# Altium footprint library Miscellaneous Devices.PcbLib: 177 footprints (part 6 of 12)
Each footprint in its own frame and in the unit in brackets; x right, y up, seen from the top. Pads: shape width x height; smd on the part's side, far side on the other; paste and mask are expansions set on the pad; w line width, h text height; cw(c..) or ccw(c..) is an arc to the next point about the centre after c.
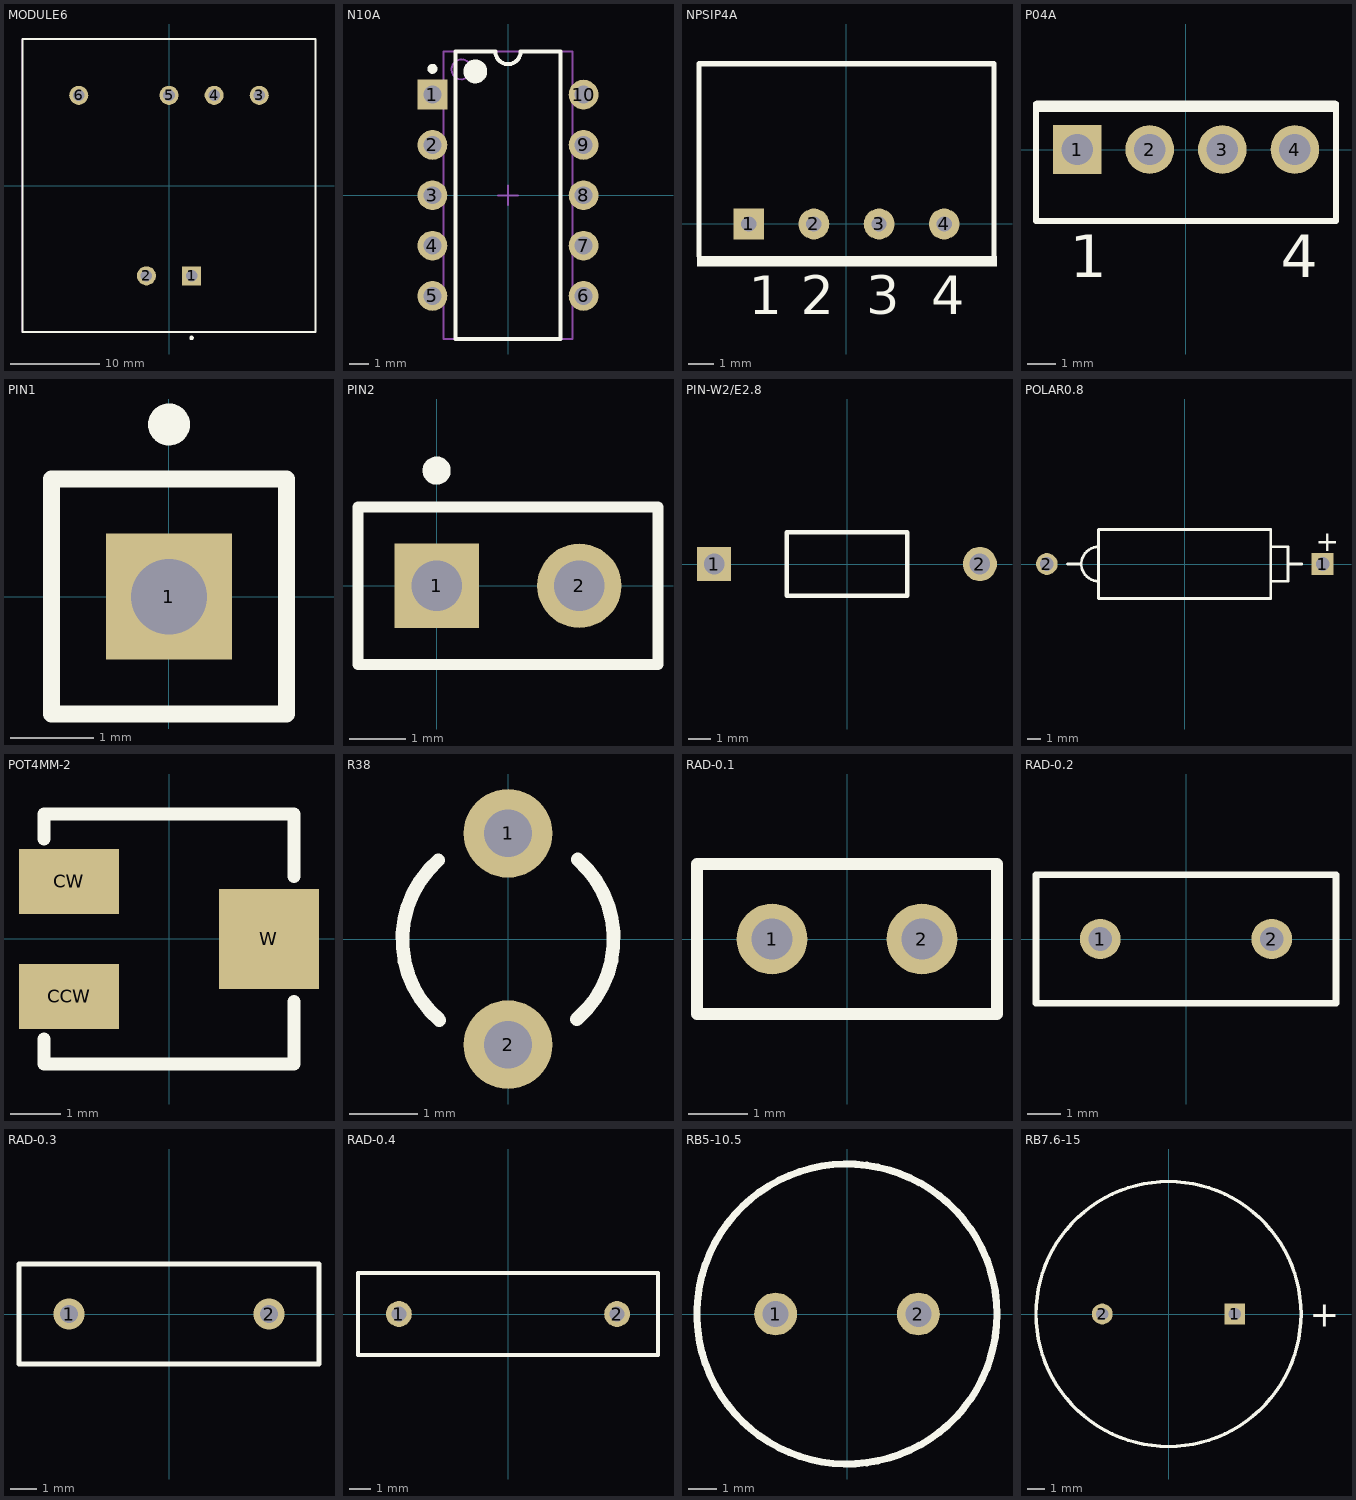
[diagram p5: the footprints below, top view; thin cyan lines are the x and y axes]

## MODULE6 [mm] "DIP; 6 Round Pins; Row Space 20.32 mm; Pitch 2.54 mm"
height 16.5
pads (6):
  rect 2.15x2.15 hole 1.3: 1(2.54,-10.16)
  round 2.15 hole 1.3: 2(-2.54,-10.16) 3(10.16,10.16) 4(5.08,10.16) 5(0,10.16) 6(-10.16,10.16)
Top Overlay:
  circle w0.25: c2.54,-17.15 r0.125
  lines w0.2: -16.5,-16.5 -16.5,16.5 16.5,16.5 16.5,-16.5 -16.5,-16.5
Mechanical 13:
  lines w0.1: -16.5,-16.5 -16.5,16.5 16.5,16.5 16.5,-16.5 -16.5,-16.5
3D body: height 16.5, standoff 0, extent -16.5,-16.5 16.5,16.5

## N10A [mm] "DIP; 10 Leads; Row Spacing 7.62 mm; Pitch 2.54 mm"
height 5.08
pads (10):
  rect 1.5x1.5 hole 0.9: 1(-3.81,5.08)
  round 1.5 hole 0.9: 2(-3.81,2.54) 3(-3.81,0) 4(-3.81,-2.54) 5(-3.81,-5.08) 6(3.81,-5.08) 7(3.81,-2.54) 8(3.81,0) 9(3.81,2.54) 10(3.81,5.08)
Top Overlay:
  circle w0.6: c-1.65,6.25 r0.3
  circle w0.25: c-3.81,6.38 r0.125
  lines w0.2: -2.65,-7.25 2.65,-7.25 2.65,7.25 0.635,7.25 cw(c0,7.25) -0.635,7.25 -2.65,7.25 -2.65,-7.25
Mechanical 13:
  circle w0.1: c-2.35,6.35 r0.5
  lines w0.1: -3.25,-7.25 3.25,-7.25 3.25,7.25 -3.25,7.25 -3.25,-7.25
Mechanical 15:
  lines w0.1: -0.5,0 0.5,0 ; 0,-0.5 0,0.5
3D body: height 5.08, standoff 0, extent -3.25,-7.25 3.25,7.25

## NPSIP4A [mm] "SIP; 4 Leads; Body 10 x 11.5 x 7.5 mm (typ); Pitch 2.54 mm"
height 10.6
pads (4):
  rect 1.2x1.2 hole 0.6: 1(-3.81,0)
  round 1.2 hole 0.6: 2(-1.27,0) 3(1.27,0) 4(3.81,0)
Top Overlay:
  rectangle: -5.83,-1.65 5.87,-1.25
  lines w0.2: -5.75,-1.25 -5.75,6.25 5.75,6.25 5.75,-1.25
  text "4" at 3.302,-3.52 h1.5
  text "3" at 0.762,-3.52 h1.5
  text "2" at -1.778,-3.52 h1.5
  text "1" at -3.81,-3.52 h1.5

## P04A [mm] "TO, Thru-Hole, Vertical, Heatsink Mounted; 4 In-Line Leads; Pitch 2.54 mm"
height 20.6
pads (4):
  rect 1.7x1.7 hole 1.1: 1(-3.81,0)
  round 1.7 hole 1.1: 2(-1.27,0) 3(1.27,0) 4(3.81,0)
Top Overlay:
  rectangle: -5.25,1.311 5.25,1.711
  lines w0.2: -5.25,1.6 -5.25,-2.5 5.25,-2.5 5.25,1.6
  text "4" at 3.31,-4.475 h1.5
  text "1" at -4.06,-4.475 h1.5

## PIN1 [mm] "Generic Antenna; 1 Lead"
pads (1):
  rect 1.5x1.5 hole 0.9: 1(0,0)
Top Overlay:
  circle w0.25: c0,2.05 r0.125
  lines w0.2: -1.4,-1.4 -1.4,1.4 1.4,1.4 1.4,-1.4 -1.4,-1.4

## PIN2 [mm] "Photosensitive Diode; 2 Leads"
pads (2):
  rect 1.5x1.5 hole 0.9: 1(0,0)
  round 1.5 hole 0.9: 2(2.54,0)
Top Overlay:
  circle w0.25: c0,2.05 r0.125
  lines w0.2: -1.4,-1.4 -1.4,1.4 3.94,1.4 3.94,-1.4 -1.4,-1.4

## PIN-W2/E2.8 [mm] "Thru-Hole; 2 Leads"
pads (2):
  rect 1.5x1.5 hole 0.9: 1(-5.825,0)
  round 1.5 hole 0.9: 2(5.825,0)
Top Overlay:
  lines w0.2: -2.65,-1.4 -2.65,1.4 2.65,1.4 2.65,-1.4 -2.65,-1.4

## POLAR0.8 [mm] "Polarized Capacitor; 2 Leads"
height 5.08
pads (2):
  rect 1.6x1.6 hole 1: 1(10.16,0)
  round 1.6 hole 1: 2(-10.16,0)
Top Overlay:
  lines w0.2: -8.636,0 -7.62,0 ; -6.35,-1.27 cw(c-6.35,0) -6.35,1.27 ; 6.35,-1.27 7.62,-1.27 7.62,1.27 6.35,1.27 ; 7.62,0 8.636,0 ; -6.35,-2.54 6.35,-2.54 6.35,2.54 -6.35,2.54 -6.35,-2.54
  text "+" at 9.652,0.95 h1.5

## POT4MM-2 [mm] "Square Trimming Potentiometer"
pads (3):
  rect 2x1.3 smd: CCW(-2,-1.15) CW(-2,1.15)
  rect 2x2 smd: W(2,0)
Top Overlay:
  lines w0.254: -2.5,-2 -2.5,-2.5 2.5,-2.5 2.5,-1.25 ; -2.5,2 -2.5,2.5 2.5,2.5 2.5,1.25

## R38 [mm] "Crystal, Thru-Hole; 2 Leads; Body 3.1 x 8.2 mm (Dia.xH)"
height 8.2
pads (2):
  round 1.3 hole 0.7: 1(0,1.55) 2(0,-1.55)
Top Overlay:
  lines w0.2: -1.022,1.155 ccw(c0,-0.01) -1.006,-1.189 ; 1.006,-1.179 ccw(c0,0) 1.022,1.165

## RAD-0.1 [mm] "Radial Cap, Thru-Hole; 2 Leads; 0.1 in Pin Spacing"
pads (2):
  round 1.2 hole 0.7: 1(-1.27,0) 2(1.27,0)
Top Overlay:
  lines w0.2: -2.54,-1.27 2.54,-1.27 2.54,1.27 -2.54,1.27 -2.54,-1.27

## RAD-0.2 [mm] "Radial Cap, Thru-Hole; 2 Leads; 0.2 in Pin Spacing"
pads (2):
  round 1.2 hole 0.7: 1(-2.54,0) 2(2.54,0)
Top Overlay:
  lines w0.2: -4.445,-1.905 -4.445,1.905 4.445,1.905 4.445,-1.905 -4.445,-1.905

## RAD-0.3 [mm] "Radial Cap, Thru-Hole; 2 Leads; 0.3 in Pin Spacing"
height 6
pads (2):
  round 1.2 hole 0.7: 1(-3.81,0) 2(3.81,0)
Top Overlay:
  lines w0.2: -5.715,-1.905 -5.715,1.905 5.715,1.905 5.715,-1.905 -5.715,-1.905

## RAD-0.4 [mm] "Radial Cap, Thru-Hole; 2 Leads; 0.4 in Pin Spacing"
pads (2):
  round 1.2 hole 0.7: 1(-5.08,0) 2(5.08,0)
Top Overlay:
  lines w0.2: -6.985,-1.905 6.985,-1.905 6.985,1.905 -6.985,1.905 -6.985,-1.905

## RB5-10.5 [mm] "Capacitor (Radial); 2 Leads"
pads (2):
  round 1.5 hole 0.9: 1(-2.5,0) 2(2.5,0)
Top Overlay:
  circle w0.25: c0,0 r5.25
Mechanical 1:
  circle w0.02: c0,0 r5.25

## RB7.6-15 [mm] "Polarized Capacitor (Radial); 2 Leads"
pads (2):
  rect 1.2x1.2 hole 0.7: 1(3.81,0)
  round 1.2 hole 0.7: 2(-3.81,0)
Top Overlay:
  circle w0.2: c0,0 r7.62
  text "+" at 8.132,-0.737 h1.5